# EAGLE library part LM358 (library LM358)
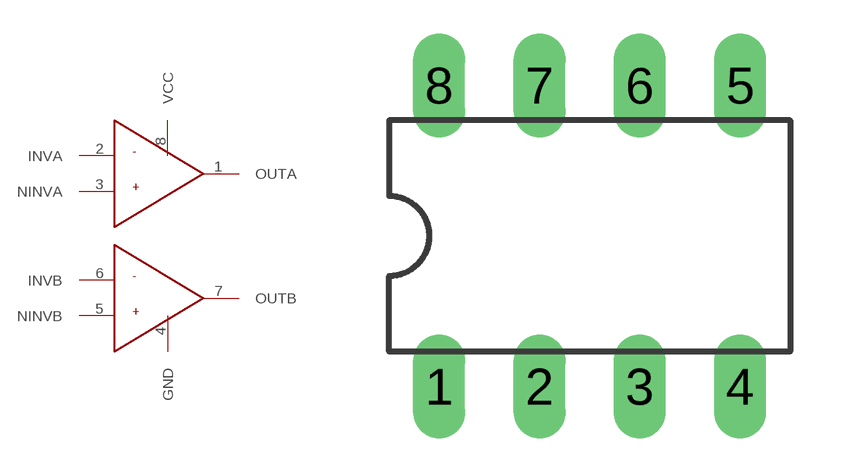
[diagram p0: symbol with the pads of LM358-DIP8; footprint LM358-DIP8]

Designator prefix -

## LM358  [LM358-DIP8]
1  OUTA
2  INVA
3  NINVA
4  GND
5  NINVB
6  INVB
7  OUTB
8  VCC

## Footprint LM358-DIP8 (pad centres in mm)
Dual In Line Package
drill 0.813 long: 1 -3.81,-3.81; 2 -1.27,-3.81; 3 1.27,-3.81; 4 3.81,-3.81; 5 3.81,3.81; 6 1.27,3.81; 7 -1.27,3.81; 8 -3.81,3.81